# EAGLE library part WISECHIP_UG-2864KSWLG01 (library pimoroni-optoelectronics)
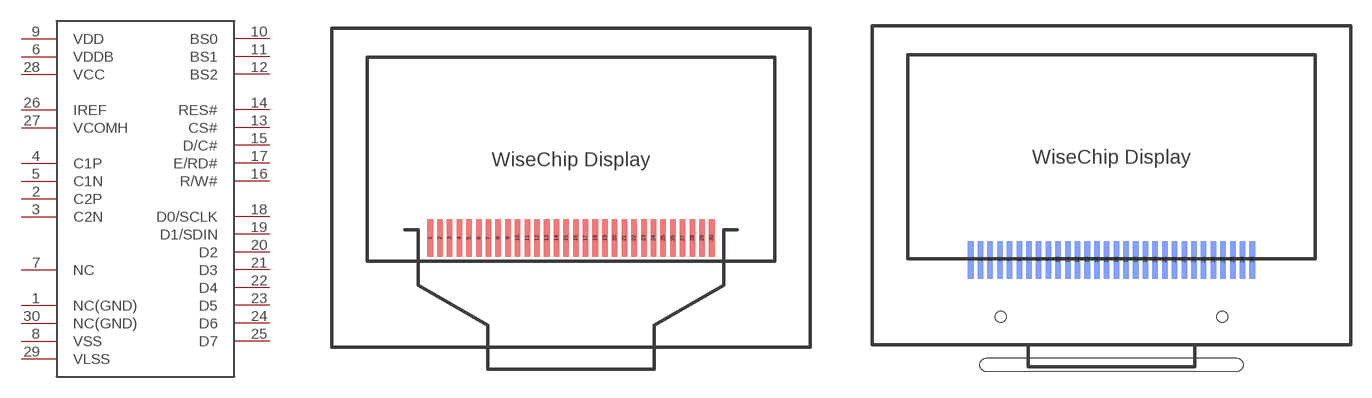
[diagram p7: symbol with the pads of WISECHIP_UG-2864KSWLG01_SS; footprints WISECHIP_UG-2864KSWLG01_SS, WISECHIP_UG-2864KSWLG01_DS]

Designator prefix -

## WISECHIP_UG-2864KSWLG01'SINGLE_SIDE'  [WISECHIP_UG-2864KSWLG01_SS]
1  NC(GND)  pwr
2  C2P  in
3  C2N  in
4  C1P  in
5  C1N  in
6  VDDB  pwr
7  NC  nc
8  VSS  pwr
9  VDD  pwr
10  BS0  in
11  BS1  in
12  BS2  in
13  CS#  in
14  RES#  in
15  D/C#  in
16  R/W#  in
17  E/RD#  in
18  D0/SCLK
19  D1/SDIN
20  D2
21  D3
22  D4
23  D5
24  D6
25  D7
26  IREF  in
27  VCOMH  out
28  VCC  pwr
29  VLSS  pwr
30  NC(GND)  pwr

## WISECHIP_UG-2864KSWLG01'DOUBLE_SIDE'  [WISECHIP_UG-2864KSWLG01_DS]
Pads as for WISECHIP_UG-2864KSWLG01_SS

## Footprint WISECHIP_UG-2864KSWLG01_SS (pad centres in mm)
smd 0.4 x 2.7: 1 -10.15,-5.68; 2 -9.45,-5.68; 3 -8.75,-5.68; 4 -8.05,-5.68; 5 -7.35,-5.68; 6 -6.65,-5.68; 7 -5.95,-5.68; 8 -5.25,-5.68; 9 -4.55,-5.68; 10 -3.85,-5.68; 11 -3.15,-5.68; 12 -2.45,-5.68; 13 -1.75,-5.68; 14 -1.05,-5.68; 15 -0.35,-5.68; 16 0.35,-5.68; 17 1.05,-5.68; 18 1.75,-5.68; 19 2.45,-5.68; 20 3.15,-5.68; 21 3.85,-5.68; 22 4.55,-5.68; 23 5.25,-5.68; 24 5.95,-5.68; 25 6.65,-5.68; 26 7.35,-5.68; 27 8.05,-5.68; 28 8.75,-5.68; 29 9.45,-5.68; 30 10.15,-5.68

## Footprint WISECHIP_UG-2864KSWLG01_DS (pad centres in mm)
smd 0.4 x 2.7 bottom: 1 -10.15,-7.43; 2 -9.45,-7.43; 3 -8.75,-7.43; 4 -8.05,-7.43; 5 -7.35,-7.43; 6 -6.65,-7.43; 7 -5.95,-7.43; 8 -5.25,-7.43; 9 -4.55,-7.43; 10 -3.85,-7.43; 11 -3.15,-7.43; 12 -2.45,-7.43; 13 -1.75,-7.43; 14 -1.05,-7.43; 15 -0.35,-7.43; 16 0.35,-7.43; 17 1.05,-7.43; 18 1.75,-7.43; 19 2.45,-7.43; 20 3.15,-7.43; 21 3.85,-7.43; 22 4.55,-7.43; 23 5.25,-7.43; 24 5.95,-7.43; 25 6.65,-7.43; 26 7.35,-7.43; 27 8.05,-7.43; 28 8.75,-7.43; 29 9.45,-7.43; 30 10.15,-7.43
hole 0.8 at -8,-11.53
hole 0.8 at 8,-11.53